# Altium schematic symbol library eUSR_SchLibrary - Diode.SchLib: 16 symbols
Pins are listed as number, name and electrical type; pins without a type are passive.

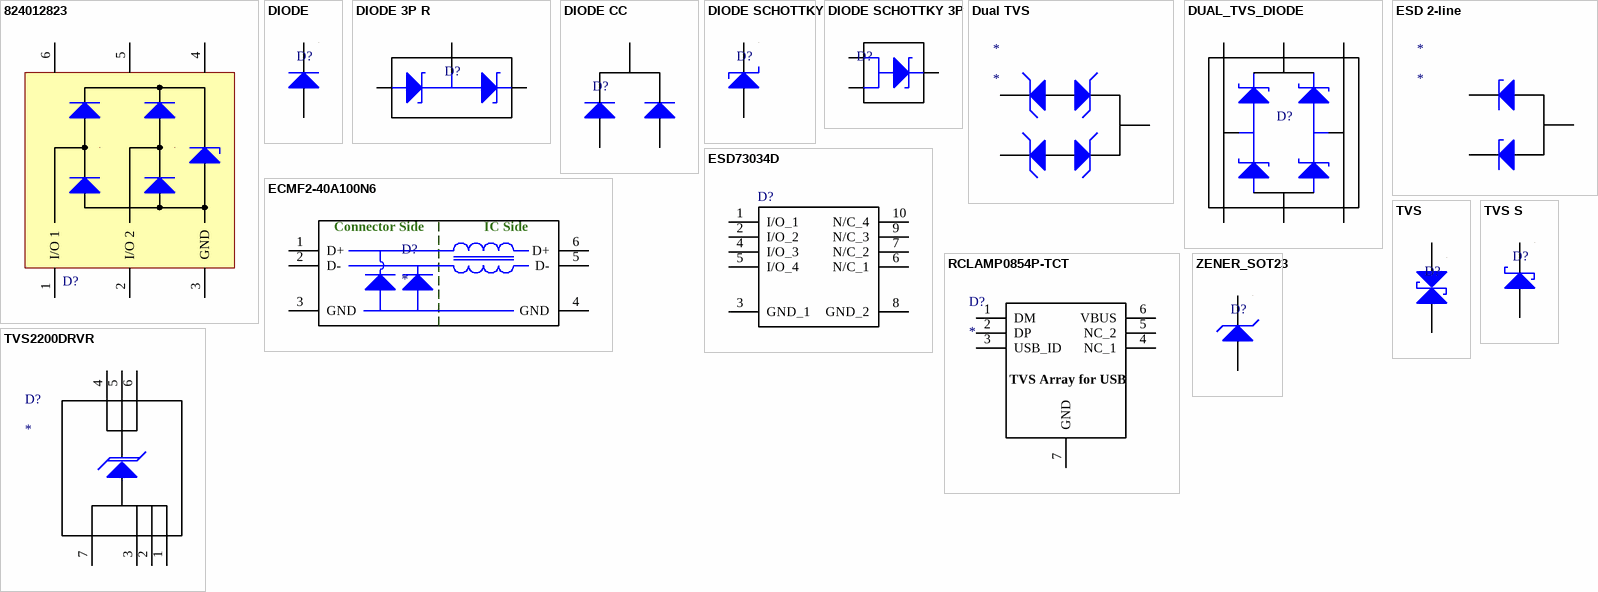
[diagram p0: symbols 824012823 to ZENER_SOT23]

## 824012823
designator D?
ComponentLink1Description: Datasheet; ComponentLink1URL: *; ComponentLink2Description: Distributor Link; ComponentLink2URL: *
pins: 1 I/O 1, 2 I/O 2, 3 GND, 4, 5, 6

## DIODE
designator D?
ComponentLink1Description: Datasheet; ComponentLink1URL: *; ComponentLink2Description: Distributor Link; ComponentLink2URL: *
pins: A, K

## DIODE 3P R
designator D?
ComponentLink1Description: Datasheet; ComponentLink1URL: *; ComponentLink2Description: Distributor Link; ComponentLink2URL: *
pins: 1, 2, 3

## DIODE CC
designator D?
ComponentLink1Description: Datasheet; ComponentLink1URL: *; ComponentLink2Description: Distributor Link; ComponentLink2URL: *
pins: A1 A, A2 A, K

## DIODE SCHOTTKY
designator D?
ComponentLink1Description: Datasheet; ComponentLink1URL: *; ComponentLink2Description: Distributor Link; ComponentLink2URL: *
pins: A, K

## DIODE SCHOTTKY 3P
designator D?
ComponentLink1Description: Datasheet; ComponentLink1URL: *; ComponentLink2Description: Distributor Link; ComponentLink2URL: *
pins: 1, 2, 3

## Dual TVS
designator *
ComponentLink1Description: Datasheet; ComponentLink1URL: *; ComponentLink2Description: Distributor Link; ComponentLink2URL: *
pins: 1, 2, 3

## DUAL_TVS_DIODE
designator D?
ComponentLink1Description: Datasheet; ComponentLink1URL: *; ComponentLink2Description: Distributor Link; ComponentLink2URL: *
pins: 1, 2, 3, 4, 5, 6

## ECMF2-40A100N6
designator D?
ESD USB; ComponentLink1Description: Datasheet; ComponentLink1URL: *; ComponentLink2Description: Distributor Link; ComponentLink2URL: *
pins: 1 D+, 2 D-, 3 GND, 4 GND, 5 D-, 6 D+
text: Connector Side; IC Side

## ESD73034D
designator D?
ComponentLink1Description: Datasheet; ComponentLink1URL: *; ComponentLink2Description: Distributor Link; ComponentLink2URL: *
pins: 1 I/O_1, 2 I/O_2, 3 GND_1, 4 I/O_3, 5 I/O_4, 6 N/C_1, 7 N/C_2, 8 GND_2, 9 N/C_3, 10 N/C_4

## ESD 2-line
designator *
pins: 1, 2, 3

## RCLAMP0854P-TCT
designator D?
ESD USB; ComponentLink1Description: Datasheet; ComponentLink1URL: *; ComponentLink2Description: Distributor Link; ComponentLink2URL: *
pins: 1 DM, 2 DP, 3 USB_ID, 4 NC_1, 5 NC_2, 6 VBUS, 7 GND
text: TVS Array for USB

## TVS
designator D?  (value not drawn)
ComponentLink1Description: Datasheet; ComponentLink1URL: *; ComponentLink2Description: Distributor Link; ComponentLink2URL: *
pins: A, K

## TVS2200DRVR
designator D?
ESD USB; ComponentLink1Description: Datasheet; ComponentLink1URL: *; ComponentLink2Description: Distributor Link; ComponentLink2URL: *
pins: 1 GND, 2 GND, 3 GND, 4 IN, 5 IN, 6 IN, 7 GND

## TVS S
designator D?  (value not drawn)
ComponentLink1Description: Datasheet; ComponentLink1URL: *; ComponentLink2Description: Distributor Link; ComponentLink2URL: *
pins: A, K

## ZENER_SOT23
designator D?
ComponentLink1Description: Datasheet; ComponentLink1URL: *; ComponentLink2Description: Distributor Link; ComponentLink2URL: *
pins: 1 A, 3 K